# Altium schematic symbol library scnano-lib.SchLib: 28 symbols
Pins are listed as number, name and electrical type; pins without a type are passive.

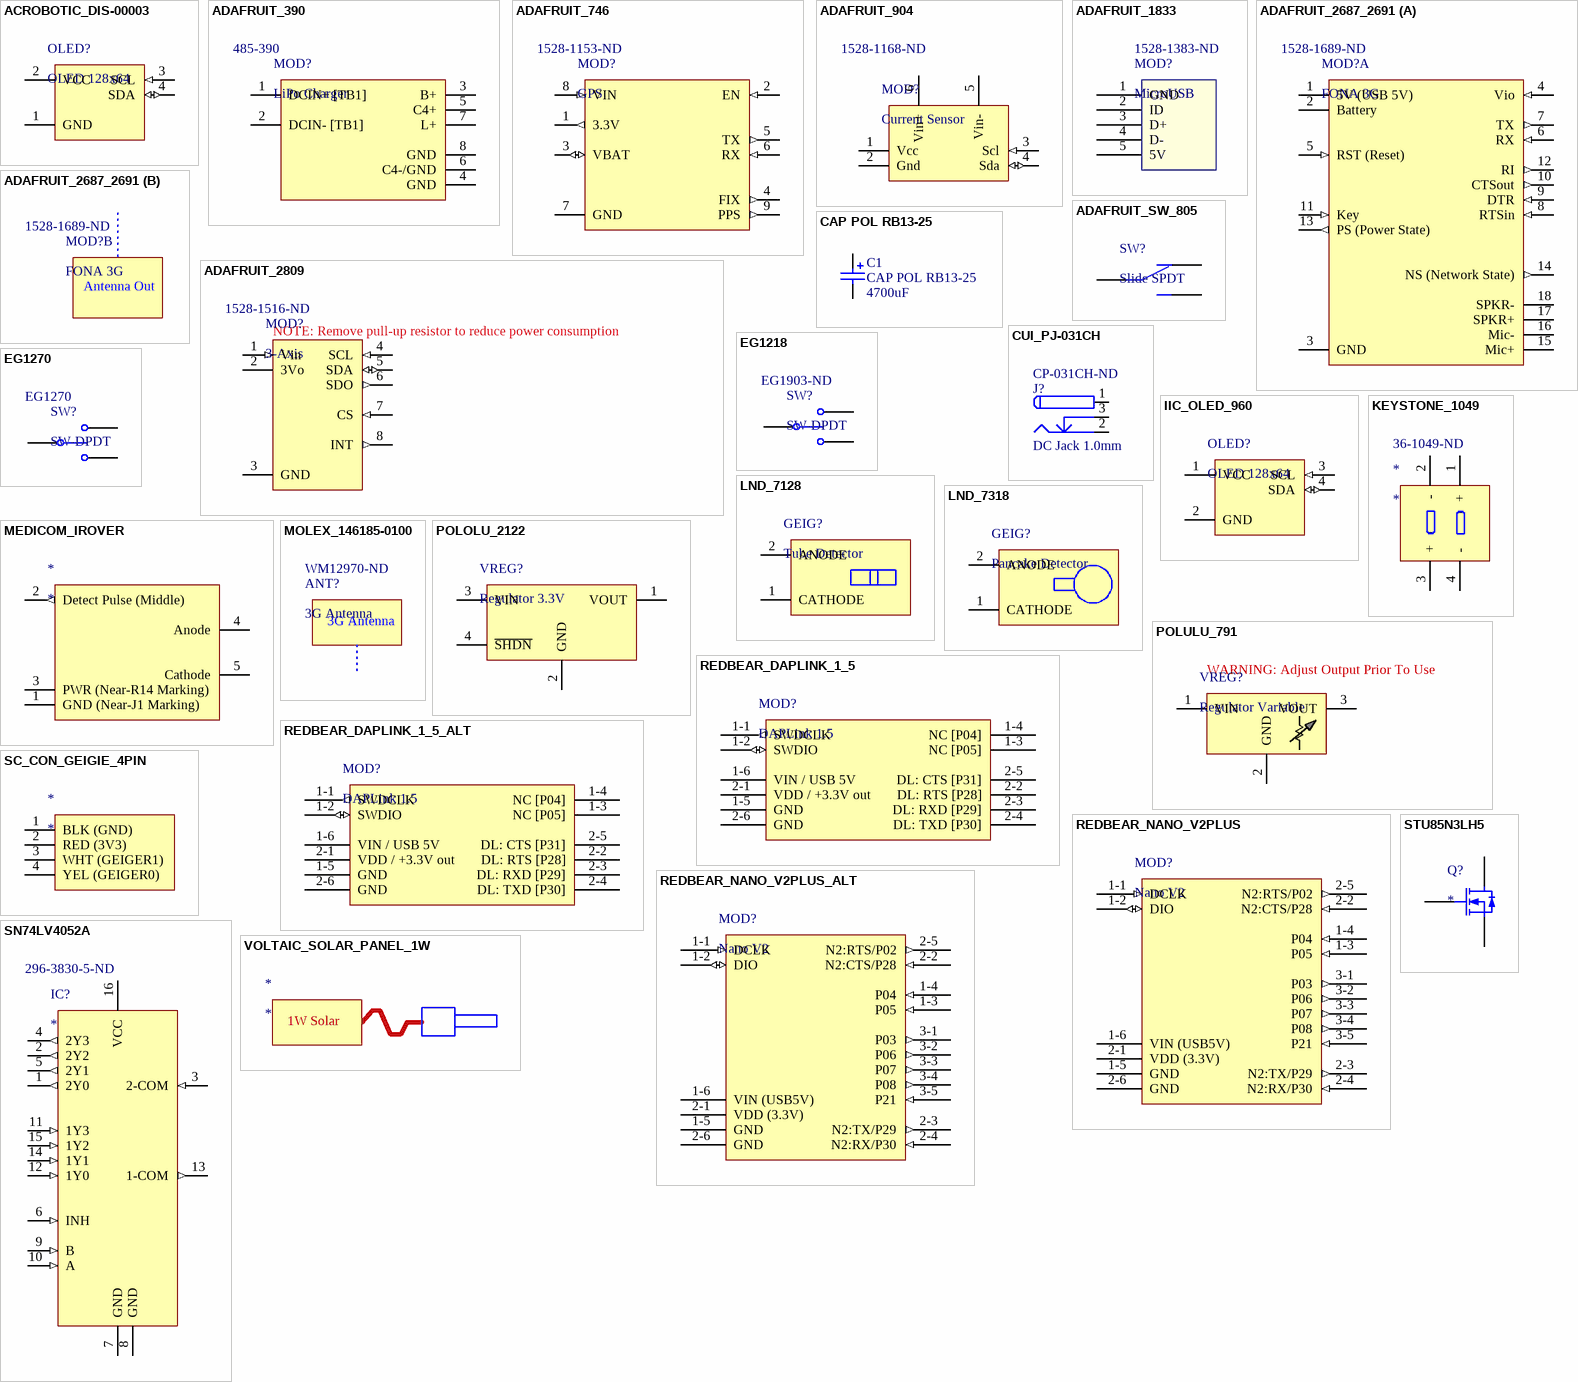
[diagram p0: symbols ACROBOTIC_DIS-00003 to VOLTAIC_SOLAR_PANEL_1W]

## ACROBOTIC_DIS-00003
designator OLED?, comment OLED 128x64
Acrobotic 0.96" Inches White I2C 128x64 OLED LCD Display Module; Manufacturer Part Number: DIS-00003; ComponentLink1Description: https://acrobotic.com/dis-00003; ComponentLink1URL: https://acrobotic.com/dis-00003; Manufacturer: Acrobotic; Supplier 1: Acrobotic; Supplier Part Number 1: DIS-00003
footprint ACROBOTIC_DIS-00003 (Acrobotic OED Dispaly 0.96" diagonal)
pins: 1 GND "DISP:", 2 VCC "DISP:", 3 SCL (in) "DISP:", 4 SDA (io) "DISP:"

## ADAFRUIT_390
designator MOD?, comment LiPo Charger  Supplier Part Number 1: 485-390
Adafruit DC / Solar Lithium Ion/Polymer charger - v2; Manufacturer: Adafruit Industries LLC; Manufacturer Part Number: 390; Supplier 1: Mouser; RoHS: RoHS Compliant; Category: Power Management IC Development Tools; Stock 1: 195; Pricing 1: 1=17.50 (USD); Brand: Adafruit; Standard Pack Qty: 1; RoHS - Mouser: Y; Minimum Order Quantity: 1; Reeling: False; ComponentLink1URL: https://cdn-learn.adafruit.com/downloads/pdf/usb-dc-and-solar-lipoly-charger.pdf; ComponentLink1Description: https://cdn-learn.adafruit.com/downloads/pdf/usb-dc-and-solar-lipoly-charger.pdf
footprint ADAFRUIT 390 (Adafruit MCP73871 Solar Charger)
pins: 1 DCIN+ [TB1] "CHARGE:", 2 DCIN- [TB1] "CHARGE:", 3 B+ "CHARGE:", 4 GND "CHARGE:", 5 C4+ (power) "Ground", 6 C4-/GND (power) "Ground", 7 L+ "CHARGE:", 8 GND "CHARGE:"

## ADAFRUIT_746
designator MOD?, comment GPS  Supplier Part Number 1: 1528-1153-ND
Adafruit Ultimate GPS Breakout - 66 channel w/10 Hz updates - Version 3; Manufacturer: Adafruit Industries LLC; Manufacturer Part Number: 746; Frequency: 1575.42MHz; For Use With/Related Products: MTK3339; Supplied Contents: Board; Supplier 1: Digi-Key; RoHS: RoHS Compliant; Category: RF/IF and RFID; Stock 1: 1625; Pricing 1: 1=39.95 (USD); Part Status: Active; Type: GPS; ComponentLink1URL: http://media.digikey.com/pdf/Data%20Sheets/Adafruit%20PDFs/746_Web.pdf; ComponentLink1Description: http://media.digikey.com/pdf/Data%20Sheets/Adafruit%20PDFs/746_Web.pdf
footprint ADAFRUIT 746 (Adafruit Ultimate GPS)
pins: 1 3.3V (out) "UGPS:", 2 EN (in) "UGPS:", 3 VBAT (io) "UGPS:", 4 FIX (out) "UGPS:", 5 TX (out) "UGPS:", 6 RX (in) "UGPS:", 7 GND "UGPS:", 8 VIN (in) "UGPS:", 9 PPS (out) "UGPS:"

## ADAFRUIT_904
designator MOD?, comment Current Sensor  Supplier Part Number 1: 1528-1168-ND
Adafruit INA219 High Side DC Current Sensor Breakout; Manufacturer: Adafruit Industries LLC; Manufacturer Part Number: 904; Utilized IC / Part: INA219B; Main Purpose: Power Management, Current Monitor; Supplied Contents: Board(s); Supplier 1: Digi-Key; RoHS: RoHS Compliant; Category: Development Boards, Kits, Programmers; Stock 1: 358; Pricing 1: 1=9.95 (USD); Part Status: Active; Embedded: -; Primary Attributes: -; Secondary Attributes: -; ComponentLink1URL: http://media.digikey.com/pdf/Data%20Sheets/Adafruit%20PDFs/904_Web.pdf; ComponentLink1Description: http://media.digikey.com/pdf/Data%20Sheets/Adafruit%20PDFs/904_Web.pdf
footprint ADAFRUIT 904
pins: 1 Vcc "INA219:", 2 Gnd "INA219:", 3 Scl (in) "INA219:", 4 Sda (io) "INA219:", 5 Vin- "INA219:", 6 Vin+ "INA219:"

## ADAFRUIT_1833
designator MOD?, comment MicroUSB  Supplier Part Number 1: 1528-1383-ND
Adafruit 1833 MicroUSB Breakout Module; Manufacturer: Adafruit Industries LLC; Manufacturer Part Number: 1833; Proto Board Type: Connector to Plated Through Hole; Package Accepted: USB - micro B; Number of Positions: 5; Board Thickness: 0.040" (1.02mm) 1/25"; Supplier 1: Digi-Key; RoHS: RoHS Compliant; Category: Prototyping Products; Stock 1: 970; Pricing 1: 1=1.5 (USD); Part Status: Active; Pitch: -; Material: -; Size / Dimension: 0.787" L x 0.394" W (20.00mm x 10.00mm); ComponentLink1URL: http://media.digikey.com/pdf/Data%20Sheets/Adafruit%20PDFs/1833_Web.pdf; ComponentLink1Description: http://media.digikey.com/pdf/Data%20Sheets/Adafruit%20PDFs/1833_Web.pdf
footprint ADAFRUIT_1833 (Adafruit 1833 Micro USB Breakout Module)
pins: 1 GND (power) "Ground", 2 ID (power) "Ground", 3 D+ (power) "Ground", 4 D- (power) "Ground", 5 5V (power) "Ground"

## ADAFRUIT_2687_2691
designator MOD?, comment FONA 3G  Supplier Part Number 1: 1528-1689-ND
Adafruit FONA 3G Cellular + GPS Breakout; Manufacturer: Adafruit Industries LLC; Manufacturer Part Number: 2687; Frequency: 850MHz, 900MHz, 1.8GHz, 1.9GHz; For Use With/Related Products: SIM808; Supplied Contents: Board; Supplier 1: Digi-Key; RoHS: RoHS Compliant; Category: RF/IF and RFID; Stock 1: 0; Pricing 1: 1=79.95 (USD); Part Status: Active; Type: Cellular Development Platform; ComponentLink1URL: https://cdn-learn.adafruit.com/downloads/pdf/adafruit-fona-3g-cellular-gps-breakout.pdf; ComponentLink1Description: https://cdn-learn.adafruit.com/downloads/pdf/adafruit-fona-3g-cellular-gps-breakout.pdf
footprint ADAFRUIT 2687 (Adafruit FONA 3G Cellular + GPS Breakout)
footprint ADAFRUIT 2687_RA (Adafruit FONA 3G Cellular + GPS Breakout, with RA header and matching socket)
part A pins: 1 5V (USB 5V) "he USB 5V from the microUSB connector when its in and powered. Good if you need to know when the microUSB is plugged in and/or want to recharge the battery from an external plug.", 2 Battery "500mA charge rate", 3 GND "Ground", 4 Vio (in) "I/O Voltage", 5 RST (Reset) (in) "Reset. Pull low for 100ms to reset. Internally pulled up.", 6 RX (in) "Data In", 7 TX (out) "Data Out", 8 RTSin (in) "RTS Flow Control", 9 DTR (in) "DTR Flow Control", 10 CTSout (out) "CTS Flow Control", 11 Key (in) "Power on/off indicator. Its also tied to the button in the top left. Tie this pin to ground for 3 to 5 seconds to turn the module on or off. It's not a level signal so it isn't like "low is off, high is on" - instead you must pulse it for ~5 seconds to turn off/on.", 12 RI (out) "Ring Indicator", 13 PS (Power State) (out) "Power Status pin. It is low when the module is off and high when the module has power.  Also tied to the Pwr LED", 14 NS (Network State) (out) "Network Status", 15 Mic+ "FONA:", 16 Mic- "FONA:", 17 SPKR+ "FONA:", 18 SPKR- "FONA:"
part B text: Antenna Out

## ADAFRUIT_2809
designator MOD?, comment 3-Axis  Supplier Part Number 1: 1528-1516-ND
Adafruit high-resolution ultra low-power triaxial (3-axis) accelerometer module (LIS3DH); Manufacturer: Adafruit Industries LLC; Manufacturer Part Number: 2809; Sensor Type: Accelerometer, 3 Axis; Sensing Range: ±2g, 4g, 8g, 16g; Interface: I²C, SPI; Sensitivity: 1mg/digit, 2mg/digit, 4mg/digit, 12mg/digit; Voltage - Supply: 3 V ~ 5 V; Supplied Contents: Board(s); Supplier 1: Digi-Key; RoHS: Not Applicable; Category: Development Boards, Kits, Programmers; Stock 1: 405; Pricing 1: 1=4.95 (USD); Part Status: Active; Embedded: -; Utilized IC / Part: LIS3DH; ComponentLink1URL: https://learn.adafruit.com/downloads/pdf/adafruit-lis3dh-triple-axis-accelerometer-breakout.pdf; ComponentLink1Description: https://learn.adafruit.com/downloads/pdf/adafruit-lis3dh-triple-axis-accelerometer-breakout.pdf; ComponentLink2Description: Sensor Datasheet https://cdn-shop.adafruit.com/datasheets/LIS3DH.pdf; ComponentLink2URL: https://cdn-shop.adafruit.com/datasheets/LIS3DH.pdf
footprint ADAFRUIT_2809 (Adafruit LIS3DH Triple-Axis Accelerometer (+-2g/4g/8g/16g))
pins: 1 Vin (in) "Voltage input.  Do not use for Safecast - the LDO regulator wastes power", 2 3Vo (power) "Voltage out, 3V", 3 GND "Ground", 4 SCL (in), 5 SDA (io) "SDA / SDI (SPI)", 6 SDO (out) "SDO (SPI)", 7 CS (in) "CS (SPI)", 8 INT (out) "Interrupt out"
text: NOTE: Remove pull-up resistor to reduce power consumption

## ADAFRUIT_SW_805
designator SW?, comment Slide SPDT
Simple slide switch, SPDT; Manufacturer: Adafruit Industries LLC; Manufacturer Part Number: 805
pins: 1 A "ONOFF:", 2 B "ONOFF:", 3 C "ONOFF:"

## CAP POL RB13-25
designator C1  value 4700uF
Polarized Capacitor (Radial); Published: 8-Jun-2000; LatestRevisionDate: 17-Jul-2002; LatestRevisionNote: Re-released for DXP Platform.; PackageReference: RB7.6-15; Publisher: Altium Limited; PackageDescription: Polarized Capacitor (Radial); 2 Leads
footprint RB13-25 (Polarized Capacitor (Radial); 2 Leads)
simulation model CAP (Capacitor)
signal-integrity model Cap Pol
pins: 1, 2

## CUI_PJ-031CH
designator J?, comment DC Jack 1.0mm  Supplier Part Number 1: CP-031CH-ND
DC Jack, 1.0 x 3.4 mm (for 1.1 x 3.5 mm plug). T/H; Manufacturer: CUI Inc.; Manufacturer Part Number: PJ-031CH; Gender: Male; Industry Recognized Mating Diameter: 1.00mm ID (0.039"), 3.40mm OD (0.134"); Actual Diameter: 0.039" (1.00mm ID), 0.165" (4.20mm OD); Number of Positions/Contacts: 2 Conductors, 3 Contacts; Internal Switch(s): Single Switch, Normally Closed; Shielding: Unshielded; Voltage - Rated: 24VDC; Current Rating: 3.5A; Mating Length/Depth: 0.260" (6.60mm); Body Color: Black; Material Flammability Rating: UL94 V-0; Published: 17-Dec-2003; DatasheetDocument: 09-May-2002; Publisher: Altium Limited; ComponentLink1Description: Manufacturer Link; ComponentLink1URL: http://domino.kycon.com/internet/Products.html; Supplier 1: Digi-Key; RoHS: RoHS Compliant; Category: Connectors, Interconnects; Stock 1: 3924; Pricing 1: 1=0.71, 10=0.666, 25=0.5996, 50=0.5328, 100=0.5106, 250=0.4662, 500=0.444, 1000=0.3663, 2500=0.333 (USD); Packaging: Bulk; Part Status: Active; Connector Type: Jack; Mounting Type: Through Hole, Right Angle; Mounting Feature: -; Termination: Solder; Features: -; Insulation Color: -; Contact Material - Plating: Silver; Body Material: -; Operating Temperature: -25°C ~ 85°C; Includes: -; Housing Material: Polybutylene Terephthalate (PBT); Contact Material: Brass; Copper Alloy; Thread Size: -; Ingress Protection: -; ComponentLink2URL: http://www.cui.com/product/resource/digikeypdf/pj-031ch.pdf; ComponentLink2Description: http://www.cui.com/product/resource/digikeypdf/pj-031ch.pdf
footprint CUI_PJ-031CH (DC Jack 1.0x3.4 mm)
pins: 1 (power), 2 (power), 3 (power)

## EG1218
designator SW?, comment SW-DPDT  Supplier Part Number 1: EG1903-ND
SWITCH SLIDE DPDT 200MA 30V; Manufacturer: E-Switch; Manufacturer Part Number: EG1218; Circuit: SPDT; Contact Timing: Non-Shorting (BBM); Switch Function: On-On; Current Rating: 200mA (DC); Actuator Type: Standard; Actuator Length: 2.00mm; Switch Travel: 2.50mm; Operating Force: 250gf; Supplier 1: Digi-Key; RoHS: RoHS Compliant; Category: Switches; Stock 1: 27031; Pricing 1: 1=0.58, 10=0.559, 25=0.5476, 50=0.4894, 100=0.466, 250=0.45436, 500=0.38446, 1000=0.3728, 5000=0.3262 (USD); Packaging: Bulk; Part Status: Active; Contact Material: Copper Alloy; Contact Finish: Silver; Mounting Type: Through Hole; Termination Style: PC Pin; Features: -; Actuator Material: -; Operating Temperature: -20°C ~ 70°C; Mechanical Life: -; Electrical Life: -; ComponentLink1URL: http://spec_sheets.e-switch.com/specs/P040040.pdf; ComponentLink1Description: http://spec_sheets.e-switch.com/specs/P040040.pdf
footprint E-SWITCH EG1218 (E Switch EG1218 - 2mm Actuator)
pins: 1, 2, 3

## EG1270
designator SW?, comment SW-DPDT  Supplier Part Number 1: EG1270
SWITCH SLIDE DPDT 200MA 30V; Manufacturer: E-Switch; Contact Current Rating: 300mA; Voltage Rating (AC): 500V; Voltage Rating (DC): 6V; Throw Configuration: SPDT; Illumination Type: Non-Illuminated; Electrical Life: 10000Cycles; Switch Travel: 2mm; Operating Force: 200gf; Contact Style: Non-Shorting; Number of Positions: 2; Supplier 1: Onlinecomponents.com; Manufacturer Part Number: EG1270; Stock 1: 236; Pricing 1: 1=0.68, 25=0.64, 100=0.61, 500=0.456, 1000=0.411, 2500=0.368, 5000=0.325, 10000=0.314 (USD); Mount: Through Hole,Brackets; Contact Plating: Silver; Contact Material: Copper,Silver; Min Operating Temperature: -20°C; Max Operating Temperature: 70°C; Package Quantity: 1000; Packaging: Bulk; Current Rating: 300mA; Termination: PC Pin; Orientation: Right Angle; Actuator Length: 2mm; REACH SVHC: No SVHC; Lead Free: Lead Free; ComponentLink1URL: https://datasheet.ciiva.com/6967/p040045b-6967522.pdf; ComponentLink1Description: https://datasheet.ciiva.com/6967/p040045b-6967522.pdf; ComponentLink2URL: https://datasheet.ciiva.com/16174/p040045-16174262.pdf; ComponentLink2Description: https://datasheet.ciiva.com/16174/p040045-16174262.pdf; ComponentLink3URL: https://datasheet.ciiva.com/2889/p040045-2889384.pdf; ComponentLink3Description: https://datasheet.ciiva.com/2889/p040045-2889384.pdf
footprint E-SWITCH EG1270 (SWITCH SLIDE SPDT 300MA 6V)
pins: 1, 2, 3

## IIC_OLED_960
designator OLED?, comment OLED 128x64
IIC 0.96" Inches White I2C 128x64 OLED LCD Display Module, with VCC on pin 1; Manufacturer: Acrobotic; Manufacturer Part Number: DIS-00003; ComponentLink1Description: https://acrobotic.com/dis-00003; ComponentLink1URL: https://acrobotic.com/dis-00003; Supplier 1: Acrobotic; Supplier Part Number 1: DIS-00003
footprint IIC_OLED_960 (IIC OLED Dispaly 0.96" diagonal w/ VCC on pin 1)
pins: 1 VCC "DISP:", 2 GND "DISP:", 3 SCL (in) "DISP:", 4 SDA (io) "DISP:"

## KEYSTONE_1049
designator *  Supplier Part Number 1: 36-1049-ND
Battery Holder, 2x18650, T/H; Manufacturer: Keystone Electronics; Manufacturer Part Number: 1049; Battery Type, Function: Cylindrical, Holder; Style: Holder (Open); Battery Cell Size: 18650; Number of Cells: 2; Supplier 1: Digi-Key; RoHS: RoHS Compliant; Category: Battery Products; Stock 1: 2954; Pricing 1: 1=4.48, 10=3.733, 50=3.2666, 100=3.111, 250=2.72212, 2500=2.33352 (USD); Part Status: Active; Battery Series: -; Mounting Type: PCB, Through Hole; Termination Style: PC Pin; Height Above Board: 0.585" (14.86mm); Operating Temperature: -50°C ~ 145°C; ComponentLink1URL: http://www.keyelco.com/product-pdf.cfm?p=921; ComponentLink1Description: http://www.keyelco.com/product-pdf.cfm?p=921
footprint Keystone 1049_R1 (THM Holder for Dual 18650 Batteries P/N 1049)
pins: 1 + "BAT:", 2 - "BAT:", 3 + "BAT:", 4 - "BAT:"

## LND_7128
designator GEIG?, comment Tube Detector
LND 7128 Energy-Compensated Geiger Tube; Manufacturer Part Number: 7128; ComponentLink1Description: Product Page; ComponentLink1URL: http://www.lndinc.com/products/353/; Manufacturer: LND
pins: 1 CATHODE (power) "Ground", 2 ANODE (power) "Ground"

## LND_7318
designator GEIG?, comment Pancake Detector
LND 7318 Pancake Geiger Tube; Manufacturer Part Number: 7317; ComponentLink1Description: Product Page; ComponentLink1URL: http://www.lndinc.com/products/17/; Manufacturer: LND
pins: 1 CATHODE (power) "Ground", 2 ANODE (power) "Ground"

## MEDICOM_IROVER
designator *
International Medcom iRover High-Voltage Power Supply and Counter Module; Manufacturer: Medicom; Manufacturer Part Number: IRover PSU; ComponentLink1Description: Supplier Website; ComponentLink1URL: https://medcom.com/
footprint IROVER_HV (IROVER HV Module)
pins: 1 GND (Near-J1 Marking) "IROVER0:Connect to BLACK Grove cable wire", 2 Detect Pulse (Middle) (out) "IROVER0:Connect to YELLOW Grove cable wire (the outside wire on Grove connector)", 3 PWR (Near-R14 Marking) "IROVER0:Connect to RED Grove cable wire", 4 Anode "IROVER0:", 5 Cathode "IROVER0:"

## MOLEX_146185-0100
designator ANT?, comment 3G Antenna  Supplier Part Number 1: WM12970-ND
Antenna, Cellular Radio, 3G; Manufacturer: Molex, LLC; Manufacturer Part Number: 1461850100; Frequency Group: Wide Band; Frequency (Center/Band): 892MHz, 1.9GHz, 4.5GHz; Frequency Range: 824MHz ~ 960MHz, 1.71GHz ~ 2.7GHz, 3GHZ ~ 6GHz; Antenna Type: Flat Patch; Return Loss: -6dB; Gain: 4dBi; Supplier 1: Digi-Key; RoHS: RoHS Compliant; Category: RF/IF and RFID; Stock 1: 1135; Pricing 1: 1=3.45, 10=3.081, 25=2.7724, 100=2.526, 250=2.27956, 500=2.04546, 1000=1.72508, 2500=1.63883, 5000=1.57722 (USD); Packaging: Bulk; Part Status: Active; VSWR: -; Features: -; Termination: Connector, MMCX Male; Ingress Protection: -; Mounting Type: Adhesive; Height (Max): -; Applications: WLAN; ComponentLink1URL: http://www.molex.com/pdm_docs/sd/1461850100_sd.pdf; ComponentLink1Description: http://www.molex.com/pdm_docs/sd/1461850100_sd.pdf
footprint MOLEX_146185-0100 (Cellular Quad-band Flex Antenna, 15.00mm Width, Cable Length 100.00mm)

## POLOLU_2122
designator VREG?, comment Regulator 3.3V
Pololu 3.3V Step-Up/Step-Down Voltage Regulator Module (S7V8F3); Manufacturer: Pololou; Manufacturer Part Number: 2122; ComponentLink1Description: https://www.pololu.com/product/2122; ComponentLink1URL: https://www.pololu.com/product/2122; Supplier 1: Pololou; Supplier Part Number 1: 2122
footprint POLOLU_2122 (Pololou 2122 - 3.3V Step-Up/Step-Down Voltage Regulator)
pins: 1 VOUT (power) "PWR3V:", 2 GND "PWR3V:", 3 VIN "PWR3V:", 4 ~{SHDN} "PWR3V:"

## POLULU_791
designator VREG?, comment Regulator Variable
Pololu Adjustable Boost Regulator Module (2.5-9.5V); Manufacturer: Pololou; Manufacturer Part Number: 791; ComponentLink1Description: https://www.pololu.com/product/791; ComponentLink1URL: https://www.pololu.com/product/791; Supplier 1: Pololou; Supplier Part Number 1: 791
footprint POLOLU_791 (Pololou 2122 - 3.3V Step-Up/Step-Down Voltage Regulator)
pins: 1 VIN "PWR4V:", 2 GND "PWR4V:", 3 VOUT "PWR4V:"
text: WARNING: Adjust Output Prior To Use

## REDBEAR_DAPLINK_1_5
designator MOD?, comment DAPLink 1.5
Redbear DAPLink 1.5 (included in purchase with BLE Nano); ComponentLink1Description: https://www.seeedstudio.com/RedBear-BLE-Nano-Kit-V2--p-2836.html; ComponentLink1URL: https://www.seeedstudio.com/RedBear-BLE-Nano-Kit-V2--p-2836.html; Manufacturer: RedBear; Manufacturer Part Number: Daplink 1.5; Supplier 1: Sparkfun; Supplier Part Number 1: WRL-14154
footprint REDBEAR DAPLINK 1.5 (DAPLink programmer for Nano V2)
pins: 1-1 SWDCLK (out) "SCLK", 1-2 SWDIO (io) "SDIO", 1-3 NC [P05] "Not Connected (P05 on Nano board)", 1-4 NC [P04] "Not Connected (P04 on Nano baord)", 1-5 GND, 1-6 VIN / USB 5V "USB5V (Supplies 5V from USB connection to Nano board)", 2-1 VDD / +3.3V out "3V3 (from on-board regulator)", 2-2 DL: RTS [P28] "RTS (P28 on Nano board)", 2-3 DL: RXD [P29] "RXD (P29 on Nano board)", 2-4 DL: TXD [P30] "TXD (P30 on Nano board)", 2-5 DL: CTS [P31] "CTS (P31 on Nano board)", 2-6 GND

## REDBEAR_DAPLINK_1_5_ALT
designator MOD?, comment DAPLink 1.5
Redbear DAPLink 1.5 (included in purchase with BLE Nano); ComponentLink1Description: https://www.seeedstudio.com/RedBear-BLE-Nano-Kit-V2--p-2836.html; ComponentLink1URL: https://www.seeedstudio.com/RedBear-BLE-Nano-Kit-V2--p-2836.html; Manufacturer: RedBear; Manufacturer Part Number: Daplink 1.5; Supplier 1: Sparkfun; Supplier Part Number 1: WRL-14154
footprint REDBEAR DAPLINK 1.5 (DAPLink programmer for Nano V2)
pins: 1-1 SWDCLK (out) "SCLK", 1-2 SWDIO (io) "SDIO", 1-3 NC [P05] "Not Connected (P05 on Nano board)", 1-4 NC [P04] "Not Connected (P04 on Nano baord)", 1-5 GND, 1-6 VIN / USB 5V "USB5V (Supplies 5V from USB connection to Nano board)", 2-1 VDD / +3.3V out "3V3 (from on-board regulator)", 2-2 DL: RTS [P28] "RTS (P28 on Nano board)", 2-3 DL: RXD [P29] "RXD (P29 on Nano board)", 2-4 DL: TXD [P30] "TXD (P30 on Nano board)", 2-5 DL: CTS [P31] "CTS (P31 on Nano board)", 2-6 GND
1 alternate drawing of the same symbol

## REDBEAR_NANO_V2PLUS
designator MOD?, comment Nano V2
Redbear Nano V2 Plus - nRF52832 processor module; ComponentLink1Description: https://www.seeedstudio.com/RedBear-BLE-Nano-V2-p-2837.html; ComponentLink1URL: https://www.seeedstudio.com/RedBear-BLE-Nano-V2-p-2837.html; Manufacturer: RedBear; Manufacturer Part Number: Nano V2 Plus; Supplier 1: Sparkfun; Supplier Part Number 1: WRL-14154
footprint REDBEAR NANO V2 (RedBear Nano V2 NRF 52832 Module)
pins: 1-1 DCLK (in) "Clock from DAPLink", 1-2 DIO (io) "Data I/O with DAPLink", 1-3 P05 (in) "GPIO", 1-4 P04 (in) "GPIO", 1-5 GND "Ground", 1-6 VIN (USB5V) "Power In (USB 5V)", 2-1 VDD (3.3V) "3.3V Power", 2-2 N2:CTS/P28 (in) "GPIO", 2-3 N2:TX/P29 (out) "TX to DAPLink", 2-4 N2:RX/P30 (in) "RX from DAPLink", 2-5 N2:RTS/P02 (out) "GPIO", 2-6 GND "Ground", 3-1 P03 (out) "GPIO", 3-2 P06 (out) "GPIO", 3-3 P07 (out) "GPIO", 3-4 P08 (out) "GPIO", 3-5 P21 (in) "GPIO"

## REDBEAR_NANO_V2PLUS_ALT
designator MOD?, comment Nano V2
Redbear Nano V2 Plus - nRF52832 processor module; ComponentLink1Description: https://www.seeedstudio.com/RedBear-BLE-Nano-V2-p-2837.html; ComponentLink1URL: https://www.seeedstudio.com/RedBear-BLE-Nano-V2-p-2837.html; Manufacturer: RedBear; Manufacturer Part Number: Nano V2 Plus; Supplier 1: Sparkfun; Supplier Part Number 1: WRL-14154
footprint REDBEAR NANO V2 (RedBear Nano V2 NRF 52832 Module)
pins: 1-1 DCLK (in) "Clock from DAPLink", 1-2 DIO (io) "Data I/O with DAPLink", 1-3 P05 (in) "GPIO", 1-4 P04 (in) "GPIO", 1-5 GND "Ground", 1-6 VIN (USB5V) "Power In (USB 5V)", 2-1 VDD (3.3V) "3.3V Power", 2-2 N2:CTS/P28 (in) "GPIO", 2-3 N2:TX/P29 (out) "TX to DAPLink", 2-4 N2:RX/P30 (in) "RX from DAPLink", 2-5 N2:RTS/P02 (out) "GPIO", 2-6 GND "Ground", 3-1 P03 (out) "GPIO", 3-2 P06 (out) "GPIO", 3-3 P07 (out) "GPIO", 3-4 P08 (out) "GPIO", 3-5 P21 (in) "GPIO"
2 alternate drawings of the same symbol

## SC_CON_GEIGIE_4PIN
designator *
Grove 4 Pin Connector Female T/H, labeled for Safecast Geiegie products; Manufacturer: Grove; Manufacturer Part Number: 4 Pin Connector
footprint NSTECH 1125S (Boxed Square Header Socket, Used for Grove 4pin)
pins: 1 BLK (GND) "GND", 2 RED (3V3) "3V3", 3 WHT (GEIGER1) "Geiger1", 4 YEL (GEIGER0) "Geiger0"

## SN74LV4052A
designator IC?  Supplier Part Number 1: 296-3830-5-ND
Dual 4-Channel Analog Multiplexer/Demultiplexer DIP-16; Manufacturer: Texas Instruments; Manufacturer Part Number: SN74LV4052AN; Switch Circuit: SP4T; Multiplexer/Demultiplexer Circuit: 4:1; On-State Resistance (Max): 75 Ohm; Channel-to-Channel Matching (&Delta;Ron): 700 mOhm; Voltage - Supply, Single (V+): 2 V ~ 5.5 V; Switch Time (Ton, Toff) (Max): 14ns, 14ns; -3db Bandwidth: 50MHz; Channel Capacitance (CS(off), CD(off)): 0.5pF, 13.1pF; Current - Leakage (IS(off)) (Max): 100nA; Crosstalk: -45dB @ 1MHz; Supplier 1: Digi-Key; RoHS: RoHS Compliant; Category: Integrated Circuits (ICs); Stock 1: 958; Pricing 1: 1=0.5, 10=0.428, 100=0.3192, 500=0.2508, 1000=0.1938 (USD); Packaging: Tube; Part Status: Active; Voltage - Supply, Dual (V±): -; Charge Injection: -; Operating Temperature: -40°C ~ 85°C (TA); Package / Case: 16-DIP (0.300", 7.62mm); Supplier Device Package: 16-PDIP; ComponentLink1URL: http://www.ti.com/lit/ds/symlink/sn74lv4052a.pdf; ComponentLink1Description: http://www.ti.com/lit/ds/symlink/sn74lv4052a.pdf
footprint N0016A (DIP, 16-Leads, Body 19.7x6.6mm, Pitch 2.54mm)
pins: 1 2Y0 (out) "MUX0:", 2 2Y2 (out) "MUX0:", 3 2-COM (in) "MUX0:", 4 2Y3 (out) "MUX0:", 5 2Y1 (out) "MUX0:", 6 INH (in) "MUX0:", 7 GND "MUX0:", 8 GND "MUX0:", 9 B (in) "MUX0:", 10 A (in) "MUX0:", 11 1Y3 (in) "MUX0:", 12 1Y0 (in) "MUX0:", 13 1-COM (out) "MUX0:", 14 1Y1 (in) "MUX0:", 15 1Y2 (in) "MUX0:", 16 VCC "MUX0:"

## STU85N3LH5
designator Q?
MOSFET N-channel 30V (the easy to handle IPAK version) carefully chosen for high-current Fona, and is a very flexible part); Manufacturer: STMicroelectronics; Manufacturer Part Number: STU85N3LHS; Current - Continuous Drain (Id) @ 25°C: 80A (Tc); Drive Voltage (Max Rds On,  Min Rds On): 5V, 10V; Vgs(th) (Max) @ Id: 2.5V @ 250µA; Gate Charge (Qg) (Max) @ Vgs: 14nC @ 5V; Input Capacitance (Ciss) (Max) @ Vds: 1850pF @ 25V; Vgs (Max): ±22V; Power Dissipation (Max): 70W (Tc); Rds On (Max) @ Id, Vgs: 5.4 mOhm @ 40A, 10V; ComponentLink1Description: http://www.st.com/content/ccc/resource/technical/document/datasheet/00/4c/c5/6c/36/f9/44/2b/CD00168872.pdf/files/CD00168872.pdf/jcr:content/translations/en.CD00168872.pdf; ComponentLink1URL: http://www.st.com/content/ccc/resource/technical/document/datasheet/00/4c/c5/6c/36/f9/44/2b/CD00168872.pdf/files/CD00168872.pdf/jcr:content/translations/en.CD00168872.pdf; Supplier 1: Digi-Key; RoHS: RoHS Compliant; Category: Discrete Semiconductor Products; Stock 1: 202; Pricing 1: 1=1.52, 10=1.363, 100=1.0626, 500=0.8778, 1000=0.693 (USD); Packaging: Tube; Part Status: Active; FET Type: N-Channel; Technology: MOSFET (Metal Oxide); FET Feature: -; Operating Temperature: 175°C (TJ); Mounting Type: Through Hole; Supplier Device Package: I-Pak; Package / Case: TO-251-3 Short Leads, IPak, TO-251AA; Supplier Part Number 1: 497-12702-5-ND
footprint TO-251-3 (3-Leads, Body 6.8x2.5mm, Pitch 2.29mm)
pins: 1 G, 2 D, 3 S

## VOLTAIC_SOLAR_PANEL_1W
designator *
1 Watt Solar Panel; Manufacturer: Voltaic; ComponentLink1Description: https://www.voltaicsystems.com/1-watt-panel; ComponentLink1URL: https://www.voltaicsystems.com/1-watt-panel; Manufacturer Part Number: 1 Watt Solar Panel
footprint VOLTAIC_SOLAR_PANEL_1W (Voltaic 1W Solar Panel)
text: 1W Solar